# Altium footprint library PCB.PCBLIB: 320 footprints (part 7 of 20)
Each footprint in its own frame and in the unit in brackets; x right, y up, seen from the top. Pads: shape width x height; smd on the part's side, far side on the other; paste and mask are expansions set on the pad; w line width, h text height; cw(c..) or ccw(c..) is an arc to the next point about the centre after c.
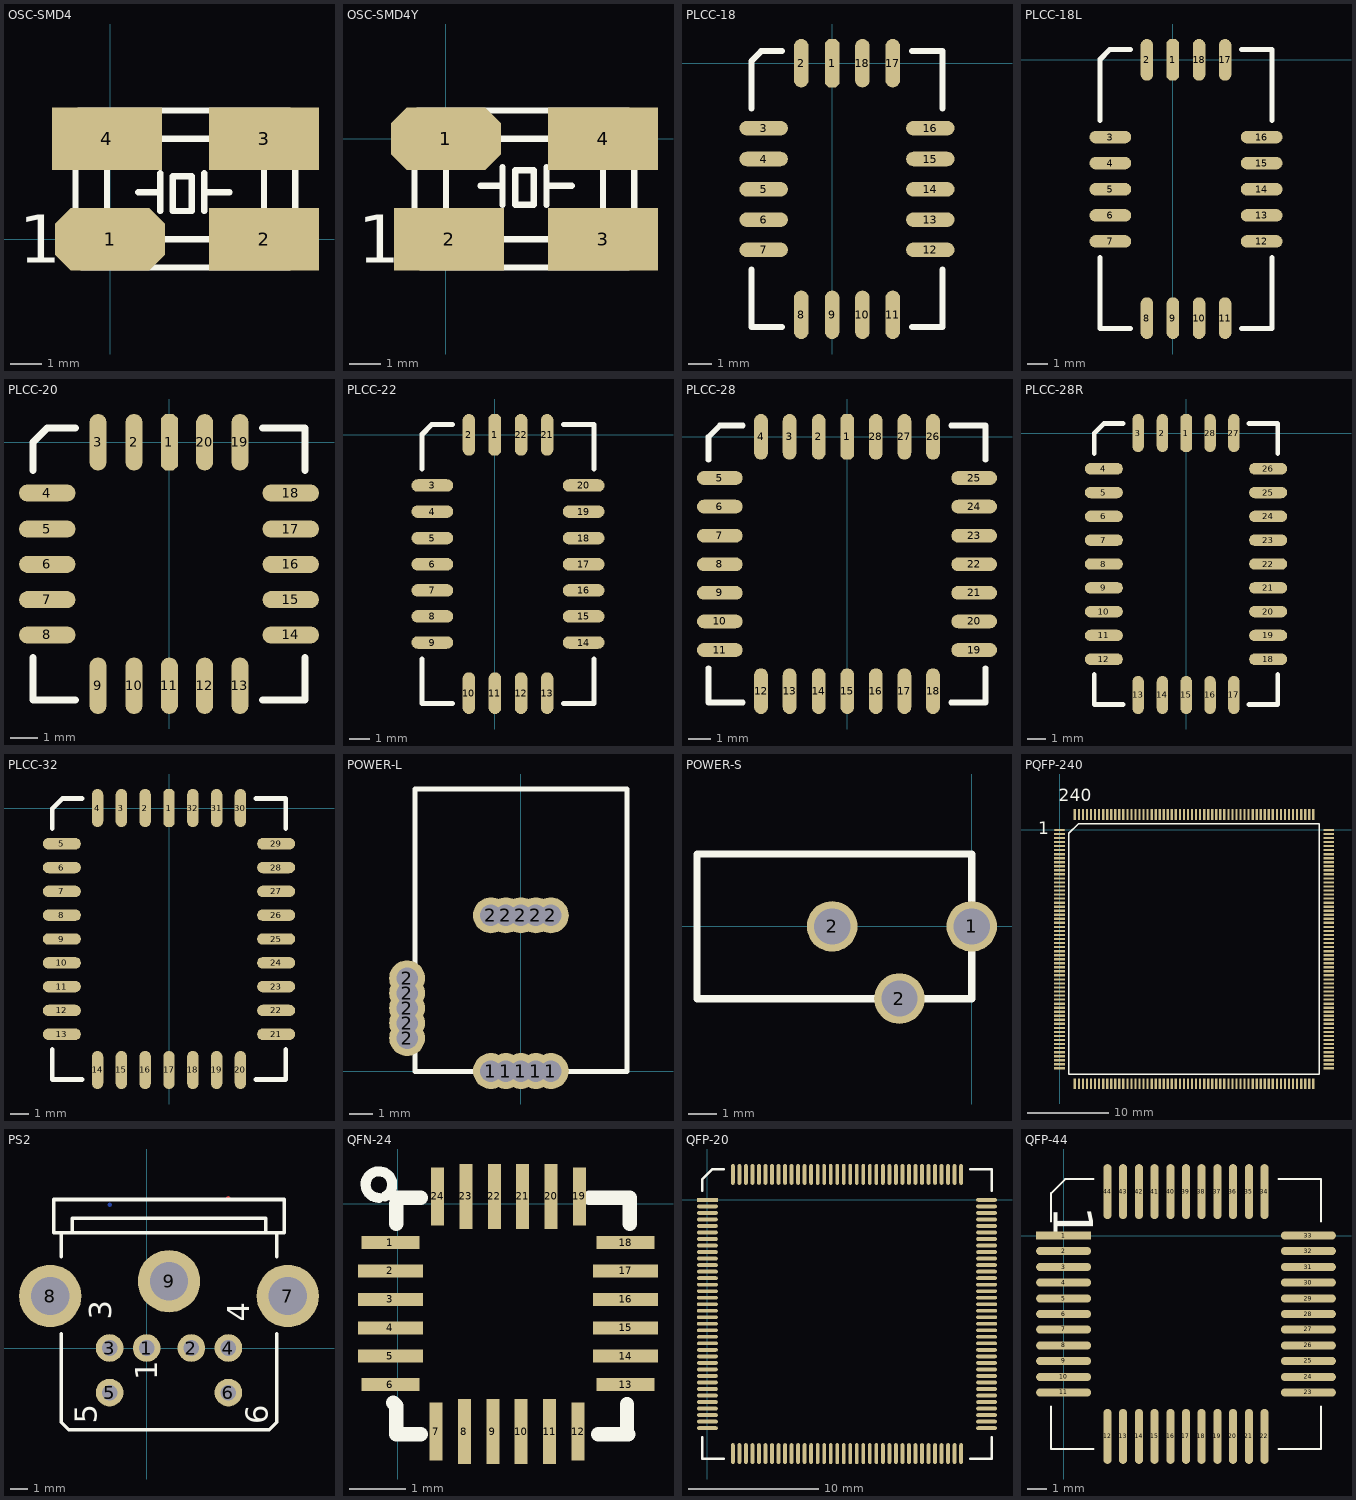
[diagram p6: the footprints below, top view; thin cyan lines are the x and y axes]

## OSC-SMD4 [mm]
pads (4):
  oct 3.5x2 smd: 1(0,0)
  rect 3.5x2 smd: 2(4.9,0) 3(4.9,3.2) 4(-0.1,3.2)
TopOverlay:
  lines w0.203: -0.1,1 -0.1,2.2 ; 0.9,1.5 1.6,1.5 ; 1.5,3.2 3.2,3.2 ; 1.6,0 3.2,0 ; 1.6,0.9 1.6,2.1 ; 3,0.9 3,2.1 ; 3,1.5 3.8,1.5 ; 4.9,0.9 4.9,2.3 ; -1.1,-0.7 -0.9,-0.9 5.7,-0.9 5.9,-0.7 5.9,4 5.8,4 5.7,4.1 -1,4.1 -1.1,4 -1.1,-0.7 ; 2,0.9 2,2 2.6,2 2.6,1.8 2.6,0.9 2,0.9
  text "1" at -2.9,-0.75 h1.52

## OSC-SMD4Y [mm]
pads (4):
  oct 3.5x2 smd: 1(0,0)
  rect 3.5x2 smd: 2(0.1,-3.2) 3(5,-3.2) 4(5,0)
TopOverlay:
  lines w0.203: 0,-2.2 0,-1 ; 1.1,-1.5 1.8,-1.5 ; 1.6,0 3.3,0 ; 1.7,-3.2 3.3,-3.2 ; 1.8,-2.1 1.8,-0.9 ; 3.2,-2.1 3.2,-0.9 ; 3.2,-1.5 4,-1.5 ; 5,-2.3 5,-0.9 ; -1,-3.9 -0.8,-4.1 5.8,-4.1 6,-3.9 6,0.8 5.9,0.8 5.8,0.9 -0.9,0.9 -1,0.8 -1,-3.9 ; 2.2,-2.1 2.2,-1 2.8,-1 2.8,-1.2 2.8,-2.1 2.2,-2.1
  text "1" at -2.8,-3.95 h1.52

## PLCC-18 [mil]
pads (18):
  oct 24x80 smd: 1(0,0)
  oval 24x80 smd: 2(-51,0) 8(-51,-415) 9(0,-415) 10(50,-415) 11(100,-415) 17(100,0) 18(50,0)
  oval 80x24 smd: 3(-113,-107) 4(-113,-158) 5(-113,-208) 6(-113,-258) 7(-113,-308) 12(162,-308) 13(162,-258) 14(162,-208) 15(162,-158) 16(162,-107)
TopOverlay:
  lines w10: -133,-340 -133,-435 -83,-435 ; -133,-75 -133,4 -117,20 -83,20 ; 132,-435 182,-435 182,-340 ; 132,20 182,20 182,-75

## PLCC-18L [mil]
pads (18):
  oct 24x80 smd: 1(0,0)
  oval 24x80 smd: 2(-50,0) 8(-50,-495) 9(0,-495) 10(50,-495) 11(100,-495) 17(100,0) 18(50,0)
  oval 80x24 smd: 3(-120,-148) 4(-120,-198) 5(-120,-248) 6(-120,-298) 7(-120,-348) 12(170,-348) 13(170,-298) 14(170,-248) 15(170,-198) 16(170,-148)
TopOverlay:
  lines w10: -140,-379 -140,-515 -82,-515 ; -140,-116 -140,1 -121,20 -82,20 ; 132,-515 190,-515 190,-379 ; 132,20 190,20 190,-116

## PLCC-20 [mil]
pads (20):
  oct 24x80 smd: 1(0,0)
  oval 24x80 smd: 2(-50,0) 3(-101,0) 9(-101,-345) 10(-50,-345) 11(0,-345) 12(50,-345) 13(100,-345) 19(100,0) 20(50,0)
  oval 80x24 smd: 4(-173,-72) 5(-173,-123) 6(-173,-173) 7(-173,-223) 8(-173,-273) 14(172,-273) 15(172,-223) 16(172,-173) 17(172,-123) 18(172,-72)
TopOverlay:
  lines w10: -193,-305 -193,-365 -133,-365 ; -193,-40 -193,0 -173,20 -133,20 ; 132,-365 192,-365 192,-305 ; 132,20 192,20 192,-40

## PLCC-22 [mil]
pads (22):
  oct 24x80 smd: 1(0,0)
  oval 24x80 smd: 2(-50,0) 10(-50,-495) 11(0,-495) 12(50,-495) 13(100,-495) 21(100,0) 22(50,0)
  oval 80x24 smd: 3(-120,-97) 4(-120,-147) 5(-120,-198) 6(-120,-248) 7(-120,-298) 8(-120,-348) 9(-120,-398) 14(170,-398) 15(170,-348) 16(170,-298) 17(170,-248) 18(170,-198) 19(170,-147) 20(170,-97)
TopOverlay:
  lines w10: -140,-430 -140,-515 -82,-515 ; -140,-65 -140,1 -121,20 -82,20 ; 132,-515 190,-515 190,-430 ; 132,20 190,20 190,-65

## PLCC-28 [mil]
pads (28):
  oct 24x80 smd: 1(0,0)
  oval 24x80 smd: 2(-50,0) 3(-101,0) 4(-151,0) 12(-151,-445) 13(-101,-445) 14(-50,-445) 15(0,-445) 16(50,-445) 17(100,-445) 18(150,-445) 26(150,0) 27(100,0) 28(50,0)
  oval 80x24 smd: 5(-223,-72) 6(-223,-122) 7(-223,-173) 8(-223,-223) 9(-223,-273) 10(-223,-323) 11(-223,-373) 19(222,-373) 20(222,-323) 21(222,-273) 22(222,-223) 23(222,-173) 24(222,-122) 25(222,-72)
TopOverlay:
  lines w10: -243,-405 -243,-465 -183,-465 ; -243,-40 -243,0 -223,20 -183,20 ; 182,-465 242,-465 242,-405 ; 182,20 242,20 242,-40

## PLCC-28R [mil]
pads (28):
  oct 24x80 smd: 1(0,0)
  oval 24x80 smd: 2(-50,0) 3(-101,0) 13(-101,-550) 14(-50,-550) 15(0,-550) 16(50,-550) 17(100,-550) 27(100,0) 28(50,0)
  oval 80x24 smd: 4(-173,-75) 5(-173,-125) 6(-173,-175) 7(-173,-225) 8(-173,-275) 9(-173,-325) 10(-173,-375) 11(-173,-425) 12(-173,-475) 18(172,-475) 19(172,-425) 20(172,-375) 21(172,-325) 22(172,-275) 23(172,-225) 24(172,-175) 25(172,-125) 26(172,-75)
TopOverlay:
  lines w10: -193,-507 -193,-570 -133,-570 ; -193,-43 -193,0 -173,20 -133,20 ; 132,-570 192,-570 192,-507 ; 132,20 192,20 192,-43

## PLCC-32 [mil]
pads (32):
  oct 24x80 smd: 1(0,0)
  oval 24x80 smd: 2(-50,0) 3(-100,0) 4(-150,0) 14(-150,-550) 15(-100,-550) 16(-50,-550) 17(0,-550) 18(50,-550) 19(100,-550) 20(150,-550) 30(150,0) 31(100,0) 32(50,0)
  oval 80x24 smd: 5(-225,-75) 6(-225,-125) 7(-225,-175) 8(-225,-225) 9(-225,-275) 10(-225,-325) 11(-225,-375) 12(-225,-425) 13(-225,-475) 21(225,-475) 22(225,-425) 23(225,-375) 24(225,-325) 25(225,-275) 26(225,-225) 27(225,-175) 28(225,-125) 29(225,-75)
TopOverlay:
  lines w10: -245,-507 -245,-570 -182,-570 ; -245,-43 -245,-1 -224,20 -182,20 ; 182,-570 245,-570 245,-507 ; 182,20 245,20 245,-43

## POWER-L [mil]
pads (15):
  round 60 hole 36: 1(-50,0) 1(-25,0) 1(0,0) 1(25,0) 1(50,0) 2(-190,55) 2(-190,80) 2(-190,105) 2(-190,130) 2(-190,155) 2(-50,260) 2(-25,260) 2(0,260) 2(25,260) 2(50,260)
TopOverlay:
  lines w8: -177,-1 -177,471 177,471 177,-1 -177,-1

## POWER-S [mil]
pads (3):
  round 70 hole 50: 1(0,0) 2(-193,0) 2(-100,-100)
TopOverlay:
  lines w10: -380,-100 0,-100 0,100 -380,100 -380,-100

## PQFP-240 [mil]
pads (240):
  oval 52x11 smd: 1(0,0)
  rect 52x11 smd: 2(0,-19.68) 3(0,-39.37) 4(0,-59.05) 5(0,-78.74) 6(0,-98.42) 7(0,-118.11) 8(0,-137.79) 9(0,-157.48) 10(0,-177.16) 11(0,-196.85) 12(0,-216.53) 13(0,-236.22) 14(0,-255.9) 15(0,-275.59) 16(0,-295.27) 17(0,-314.96) 18(0,-334.64) 19(0,-354.33) 20(0,-374.01) 21(0,-393.7) 22(0,-413.38) 23(0,-433.07) 24(0,-452.75) 25(0,-472.44) 26(0,-492.12) 27(0,-511.81) 28(0,-531.5) 29(0,-551.18) 30(0,-570.87) 31(0,-590.55) 32(0,-610.23) 33(0,-629.92) 34(0,-649.6) 35(0,-669.29) 36(0,-688.97) 37(0,-708.66) 38(0,-728.34) 39(0,-748.03) 40(0,-767.71) 41(0,-787.4) 42(0,-807.08) 43(0,-826.77) 44(0,-846.46) 45(0,-866.14) 46(0,-885.83) 47(0,-905.51) 48(0,-925.2) 49(0,-944.88) 50(0,-964.57) 51(0,-984.25) 52(0,-1003.93) 53(0,-1023.62) 54(0,-1043.31) 55(0,-1062.99) 56(0,-1082.67) 57(0,-1102.36) 58(0,-1122.04) 59(0,-1141.73) 60(0,-1161.41) 121(1311.02,-1161.41) 122(1311.02,-1141.73) 123(1311.02,-1122.04) 124(1311.02,-1102.36) 125(1311.02,-1082.67) 126(1311.02,-1062.99) 127(1311.02,-1043.31) 128(1311.02,-1023.62) 129(1311.02,-1003.93) 130(1311.02,-984.25) 131(1311.02,-964.57) 132(1311.02,-944.88) 133(1311.02,-925.2) 134(1311.02,-905.51) 135(1311.02,-885.83) 136(1311.02,-866.14) 137(1311.02,-846.46) 138(1311.02,-826.77) 139(1311.02,-807.08) 140(1311.02,-787.4) 141(1311.02,-767.71) 142(1311.02,-748.03) 143(1311.02,-728.34) 144(1311.02,-708.66) 145(1311.02,-688.97) 146(1311.02,-669.29) 147(1311.02,-649.6) 148(1311.02,-629.92) 149(1311.02,-610.23) 150(1311.02,-590.55) 151(1311.02,-570.87) 152(1311.02,-551.18) 153(1311.02,-531.5) 154(1311.02,-511.81) 155(1311.02,-492.12) 156(1311.02,-472.44) 157(1311.02,-452.75) 158(1311.02,-433.07) 159(1311.02,-413.38) 160(1311.02,-393.7) 161(1311.02,-374.01) 162(1311.02,-354.33) 163(1311.02,-334.64) 164(1311.02,-314.96) 165(1311.02,-295.27) 166(1311.02,-275.59) 167(1311.02,-255.9) 168(1311.02,-236.22) 169(1311.02,-216.53) 170(1311.02,-196.85) 171(1311.02,-177.16) 172(1311.02,-157.48) 173(1311.02,-137.79) 174(1311.02,-118.11) 175(1311.02,-98.42) 176(1311.02,-78.74) 177(1311.02,-59.05) 178(1311.02,-39.37) 179(1311.02,-19.68) 180(1311.02,0)
  rect 11x52 smd: 61(74.8,-1236.22) 62(94.49,-1236.22) 63(114.17,-1236.22) 64(133.86,-1236.22) 65(153.54,-1236.22) 66(173.23,-1236.22) 67(192.91,-1236.22) 68(212.6,-1236.22) 69(232.28,-1236.22) 70(251.97,-1236.22) 71(271.65,-1236.22) 72(291.34,-1236.22) 73(311.02,-1236.22) 74(330.71,-1236.22) 75(350.39,-1236.22) 76(370.08,-1236.22) 77(389.76,-1236.22) 78(409.45,-1236.22) 79(429.13,-1236.22) 80(448.82,-1236.22) 81(468.5,-1236.22) 82(488.19,-1236.22) 83(507.87,-1236.22) 84(527.56,-1236.22) 85(547.24,-1236.22) 86(566.93,-1236.22) 87(586.61,-1236.22) 88(606.3,-1236.22) 89(625.98,-1236.22) 90(645.67,-1236.22) 91(665.35,-1236.22) 92(685.04,-1236.22) 93(704.72,-1236.22) 94(724.41,-1236.22) 95(744.09,-1236.22) 96(763.78,-1236.22) 97(783.46,-1236.22) 98(803.15,-1236.22) 99(822.83,-1236.22) 100(842.52,-1236.22) 101(862.2,-1236.22) 102(881.89,-1236.22) 103(901.57,-1236.22) 104(921.26,-1236.22) 105(940.94,-1236.22) 106(960.63,-1236.22) 107(980.31,-1236.22) 108(1000,-1236.22) 109(1019.68,-1236.22) 110(1039.37,-1236.22) 111(1059.05,-1236.22) 112(1078.74,-1236.22) 113(1098.42,-1236.22) 114(1118.11,-1236.22) 115(1137.79,-1236.22) 116(1157.48,-1236.22) 117(1177.16,-1236.22) 118(1196.85,-1236.22) 119(1216.53,-1236.22) 120(1236.22,-1236.22) 181(1236.22,74.8) 182(1216.53,74.8) 183(1196.85,74.8) 184(1177.16,74.8) 185(1157.48,74.8) 186(1137.79,74.8) 187(1118.11,74.8) 188(1098.42,74.8) 189(1078.74,74.8) 190(1059.05,74.8) 191(1039.37,74.8) 192(1019.68,74.8) 193(1000,74.8) 194(980.31,74.8) 195(960.63,74.8) 196(940.94,74.8) 197(921.26,74.8) 198(901.57,74.8) 199(881.89,74.8) 200(862.2,74.8) 201(842.52,74.8) 202(822.83,74.8) 203(803.15,74.8) 204(783.46,74.8) 205(763.78,74.8) 206(744.09,74.8) 207(724.41,74.8) 208(704.72,74.8) 209(685.04,74.8) 210(665.35,74.8) 211(645.67,74.8) 212(625.98,74.8) 213(606.3,74.8) 214(586.61,74.8) 215(566.93,74.8) 216(547.24,74.8) 217(527.56,74.8) 218(507.87,74.8) 219(488.19,74.8) 220(468.5,74.8) 221(448.82,74.8) 222(429.13,74.8) 223(409.45,74.8) 224(389.76,74.8) 225(370.08,74.8) 226(350.39,74.8) 227(330.71,74.8) 228(311.02,74.8) 229(291.34,74.8) 230(271.65,74.8) 231(251.97,74.8) 232(232.28,74.8) 233(212.6,74.8) 234(192.91,74.8) 235(173.23,74.8) 236(153.54,74.8) 237(133.86,74.8) 238(114.17,74.8) 239(94.49,74.8) 240(74.8,74.8)
TopOverlay:
  lines w7.87: 45.67,-1190.55 1265.35,-1190.55 1265.35,29.13 91.34,29.13 45.67,-16.53 45.67,-1190.55
  text "240" at -4.49,139.29 h60
  text "1" at -104.49,-20.71 h60

## PS2 [mil]
pads (9):
  round 62 hole 35: 1(0,0) 2(100,0) 3(-83.33,0) 4(183.33,0) 5(-83.33,-100) 6(183.33,-100)
  round 140 hole 86: 7(316.67,116.67) 8(-216.67,116.67) 9(50,150)
TopLayer:
  lines w10: 183,336 183.33,335.67
BottomLayer:
  lines w10: -83.33,321.67 -83,322 ; 182.33,-101 183.33,-100
TopOverlay:
  lines w8: -191.67,31.5 -191.67,-166.67 -175,-183.33 275,-183.33 291.67,-166.67 291.67,31.5 ; -191.67,204.72 -191.67,258.33 ; 291.67,204.72 291.67,258.33 ; -166.67,258.33 266.67,258.33 ; -166.67,258.33 -208.33,258.33 -208.33,333.33 308.33,333.33 308.33,258.33 266.67,258.33 ; -166.67,258.33 -166.67,291.67 266.67,291.67 266.67,258.33
  text "1" at 23.43,-72.1 h50
  text "3" at -79.23,63.9 h50
  text "4" at 230.1,58.57 h50
  text "6" at 271.43,-170.76 h50
  text "5" at -112.57,-169.43 h50

## QFN-24 [mil]
pads (24):
  rect 40x9 smd: 1(-5,-27) 6(-5,-125.42) 13(158,-125.42) 18(158,-27)
  rect 45x9 smd: 2(-5,-46.69) 3(-5,-66.37) 4(-5,-86.06) 5(-5,-105.74) 14(158,-105.74) 15(158,-86.06) 16(158,-66.37) 17(158,-46.69)
  rect 9x40 smd: 7(26.62,-158) 12(125.05,-158) 19(126.05,5) 24(27.62,5)
  rect 9x45 smd: 8(46.31,-158) 9(65.99,-158) 10(85.68,-158) 11(105.36,-158) 20(106.36,5) 21(86.68,5) 22(66.99,5) 23(47.31,5)
TopOverlay:
  lines w7: -13,4 cw(c-13,13.22) -8.88,4.97
  lines w10: -3,-138 -1,-140 -1,-160 16,-160 ; -1,-14 -1,0 ; -1,4 16,4 ; 133,4 161,4 161,-14 ; 139,-160 160,-160 159,-159 159,-139

## QFP-20 [mm]
pads (144):
  rect 1.6x0.29 smd: 1(0,0)
  oval 1.6x0.29 smd: 2(0,-0.5) 3(0,-1) 4(0,-1.5) 5(0,-2) 6(0,-2.5) 7(0,-3) 8(0,-3.5) 9(0,-4) 10(0,-4.5) 11(0,-5) 12(0,-5.5) 13(0,-6) 14(0,-6.5) 15(0,-7) 16(0,-7.5) 17(0,-8) 18(0,-8.5) 19(0,-9) 20(0,-9.5) 21(0,-10) 22(0,-10.5) 23(0,-11) 24(0,-11.5) 25(0,-12) 26(0,-12.5) 27(0,-13) 28(0,-13.5) 29(0,-14) 30(0,-14.5) 31(0,-15) 32(0,-15.5) 33(0,-16) 34(0,-16.5) 35(0,-17) 36(0,-17.5) 73(21.4,-17.5) 74(21.4,-17) 75(21.4,-16.5) 76(21.4,-16) 77(21.4,-15.5) 78(21.4,-15) 79(21.4,-14.5) 80(21.4,-14) 81(21.4,-13.5) 82(21.4,-13) 83(21.4,-12.5) 84(21.4,-12) 85(21.4,-11.5) 86(21.4,-11) 87(21.4,-10.5) 88(21.4,-10) 89(21.4,-9.5) 90(21.4,-9) 91(21.4,-8.5) 92(21.4,-8) 93(21.4,-7.5) 94(21.4,-7) 95(21.4,-6.5) 96(21.4,-6) 97(21.4,-5.5) 98(21.4,-5) 99(21.4,-4.5) 100(21.4,-4) 101(21.4,-3.5) 102(21.4,-3) 103(21.4,-2.5) 104(21.4,-2) 105(21.4,-1.5) 106(21.4,-1) 107(21.4,-0.5) 108(21.4,0)
  oval 0.29x1.6 smd: 37(1.95,-19.45) 38(2.45,-19.45) 39(2.95,-19.45) 40(3.45,-19.45) 41(3.95,-19.45) 42(4.45,-19.45) 43(4.95,-19.45) 44(5.45,-19.45) 45(5.95,-19.45) 46(6.45,-19.45) 47(6.95,-19.45) 48(7.45,-19.45) 49(7.95,-19.45) 50(8.45,-19.45) 51(8.95,-19.45) 52(9.45,-19.45) 53(9.95,-19.45) 54(10.45,-19.45) 55(10.95,-19.45) 56(11.45,-19.45) 57(11.95,-19.45) 58(12.45,-19.45) 59(12.95,-19.45) 60(13.45,-19.45) 61(13.95,-19.45) 62(14.45,-19.45) 63(14.95,-19.45) 64(15.45,-19.45) 65(15.95,-19.45) 66(16.45,-19.45) 67(16.95,-19.45) 68(17.45,-19.45) 69(17.95,-19.45) 70(18.45,-19.45) 71(18.95,-19.45) 72(19.45,-19.45) 109(19.45,1.95) 110(18.95,1.95) 111(18.45,1.95) 112(17.95,1.95) 113(17.45,1.95) 114(16.95,1.95) 115(16.45,1.95) 116(15.95,1.95) 117(15.45,1.95) 118(14.95,1.95) 119(14.45,1.95) 120(13.95,1.95) 121(13.45,1.95) 122(12.95,1.95) 123(12.45,1.95) 124(11.95,1.95) 125(11.45,1.95) 126(10.95,1.95) 127(10.45,1.95) 128(9.95,1.95) 129(9.45,1.95) 130(8.95,1.95) 131(8.45,1.95) 132(7.95,1.95) 133(7.45,1.95) 134(6.95,1.95) 135(6.45,1.95) 136(5.95,1.95) 137(5.45,1.95) 138(4.95,1.95) 139(4.45,1.95) 140(3.95,1.95) 141(3.45,1.95) 142(2.95,1.95) 143(2.45,1.95) 144(1.95,1.95)
TopOverlay:
  lines w0.2: -0.4,-18.2 -0.4,-19.85 1.25,-19.85 ; -0.4,0.7 -0.4,1.55 0.4,2.35 1.25,2.35 ; 20.15,-19.85 21.8,-19.85 21.8,-18.2 ; 20.15,2.35 21.8,2.35 21.8,0.7

## QFP-44 [mm]
pads (44):
  rect 2.8x0.4 smd: 1(0,0)
  oval 2.8x0.4 smd: 2(0,-0.787) 3(0,-1.6) 4(0,-2.388) 5(0,-3.2) 6(0,-3.988) 7(0,-4.775) 8(0,-5.588) 9(0,-6.375) 10(0,-7.188) 11(0,-7.976) 23(12.446,-7.976) 24(12.446,-7.188) 25(12.446,-6.375) 26(12.446,-5.588) 27(12.446,-4.775) 28(12.446,-3.988) 29(12.446,-3.2) 30(12.446,-2.388) 31(12.446,-1.6) 32(12.446,-0.787) 33(12.446,0)
  oval 0.4x2.8 smd: 12(2.235,-10.211) 13(3.023,-10.211) 14(3.835,-10.211) 15(4.623,-10.211) 16(5.436,-10.211) 17(6.223,-10.211) 18(7.01,-10.211) 19(7.823,-10.211) 20(8.611,-10.211) 21(9.423,-10.211) 22(10.211,-10.211) 34(10.211,2.235) 35(9.423,2.235) 36(8.611,2.235) 37(7.823,2.235) 38(7.01,2.235) 39(6.223,2.235) 40(5.436,2.235) 41(4.623,2.235) 42(3.835,2.235) 43(3.023,2.235) 44(2.235,2.235)
TopOverlay:
  lines w0.1: -0.635,-8.687 -0.635,-10.846 1.524,-10.846 ; -0.635,0.711 -0.635,2.159 0.076,2.87 1.524,2.87 ; 10.922,-10.846 13.081,-10.846 13.081,-8.687 ; 10.922,2.87 13.081,2.87 13.081,0.711
  text "1" at -0.508,1.524 h2